# EAGLE library part RJ45_EDW (library RJ45)
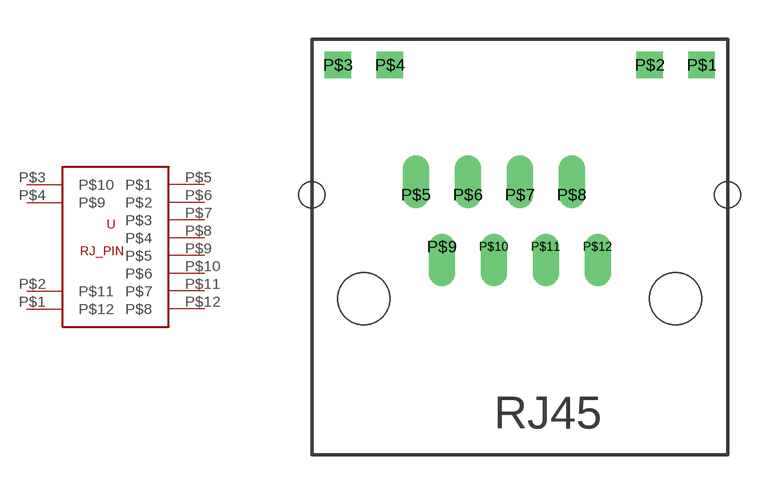
[diagram p0: symbol with the pads of RJ45-DIL; footprint RJ45-DIL]

Designator prefix -

## RJ45_EDWRJ45-DIL  [RJ45-DIL]
P$1  P$12
P$2  P$11
P$3  P$10
P$4  P$9
P$5  P$1
P$6  P$2
P$7  P$3
P$8  P$4
P$9  P$5
P$10  P$6
P$11  P$7
P$12  P$8

## Footprint RJ45-DIL (pad centres in mm)
drill 0.5 square: P$1 15,15; P$2 13,15; P$3 1,15; P$4 3,15
drill 0.5 pad 1.016 offset: P$5 4,10; P$6 6,10; P$7 8,10; P$8 10,10; P$9 5,8; P$10 7,8; P$11 9,8; P$12 11,8
hole 1 at 16,10
hole 2 at 14,6
hole 2 at 2,6
hole 1 at 0,10